# EAGLE library part BAV99 (library tide_clock)
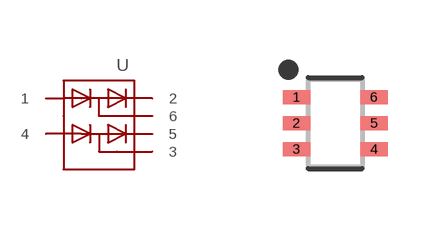
[diagram p3: symbol with the pads of SOTFL65P210X110-6; footprint SOTFL65P210X110-6]

Designator prefix -

## BAV99  [SOTFL65P210X110-6]
1  1  pas
2  2  pas
3  3  pas
4  4  pas
5  5  pas
6  6  pas

## Footprint SOTFL65P210X110-6 (pad centres in mm)
6-SOTFL, 0.65 mm pitch, 2.10 mm span, 2.00 X 1.25 X 1.10 mm body 6-pin SOTFL package with 0.65 mm pitch, 2.10 mm span with body size 2.00 X 1.25 X 1.10 mm
smd 0.688 x 0.35: 1 -0.97,0.65; 2 -0.97,0; 3 -0.97,-0.65; 4 0.97,-0.65; 5 0.97,0; 6 0.97,0.65